# EAGLE library part ADP7118ACPZN (library EIT_Recorder)
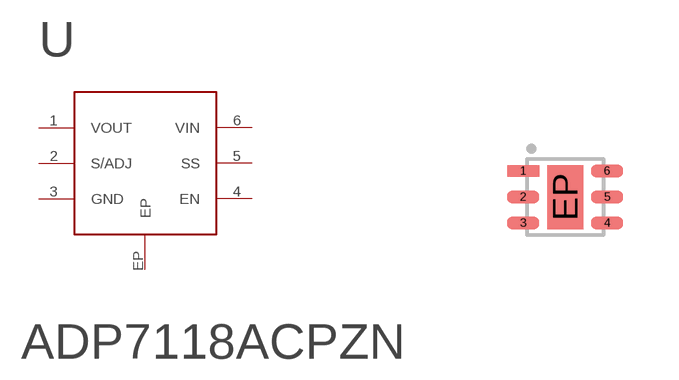
[diagram p4: symbol with the pads of LFCSP6_CUSTOM; footprint LFCSP6_CUSTOM]

Designator prefix U

## ADP7118ACPZN  [LFCSP6_CUSTOM]
1  VOUT  pwr
2  S/ADJ
3  GND  pwr
4  EN
5  SS
6  VIN  pwr
EP  EP  pwr

## Footprint LFCSP6_CUSTOM (pad centres in mm)
smd 0.8 x 0.3: 1 -1.05,0.75; 2 -1.05,0.1; 3 -1.05,-0.55; 4 1.05,-0.55; 5 1.05,0.1; 6 1.05,0.75
smd 0.9 x 1.6: EP 0,0.1